# Altium schematic symbol library Push_Button.Schlib: 1 symbol
Pins are listed as number, name and electrical type; pins without a type are passive.

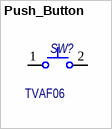
[diagram p0: symbol Push_Button]

## Push_Button
designator SW?, comment Наименование: TVAF06  (hidden comment: Push button)
Потребление, Вт: 0,001; Назначение: Push button
footprint TVAF06 (2-Pin Switch, Push Button, SMD, Body 2.9 x 3.9 mm)
pins: 1, 2